# Altium schematic symbol library LM2596_MODULE.SCHLIB: 1 symbol
Pins are listed as number, name and electrical type; pins without a type are passive.

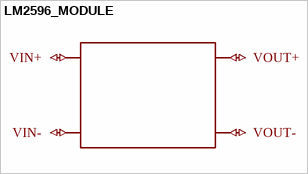
[diagram p0: symbol LM2596_MODULE]

## LM2596_MODULE
designator ?
GateName_1: G$1; SymbolName_1: LM2596_MODULE; LibraryName: LM2596_MODULE; DeviceSetName: LM2596_MODULE; Package: LM2596_MODULE
footprint LM2596_MODULE
pins: VIN+ (io), VIN- (io), VOUT+ (io), VOUT- (io)